# EAGLE library part 6WIRE_STEPPER_MOTOER (library Charlie)
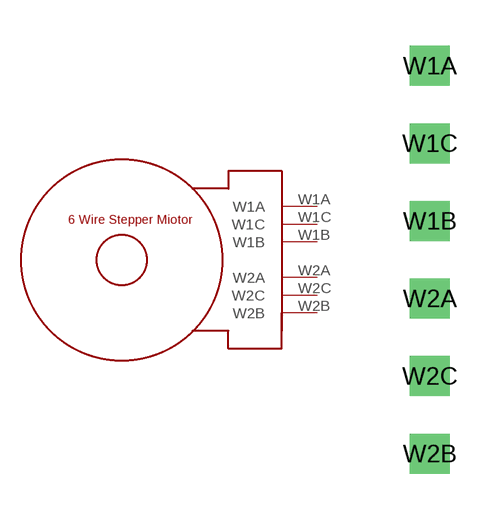
[diagram p4: symbol with the pads of 6WIRE_STEPPER_MOTER; footprint 6WIRE_STEPPER_MOTER]

Designator prefix -

## 6WIRE_STEPPER_MOTOER  [6WIRE_STEPPER_MOTER]
W1A  W1A
W1B  W1B
W1C  W1C
W2A  W2A
W2B  W2B
W2C  W2C

## Footprint 6WIRE_STEPPER_MOTER (pad centres in mm)
drill 0.8 square: W1A 3.81,10.16; W1B 3.81,5.08; W1C 3.81,7.62; W2A 3.81,2.54; W2B 3.81,-2.54; W2C 3.81,0